# Altium footprint library TE_1586039-6.PcbLib: 1 footprints
Each footprint in its own frame and in the unit in brackets; x right, y up, seen from the top. Pads: shape width x height; smd on the part's side, far side on the other; paste and mask are expansions set on the pad; w line width, h text height; cw(c..) or ccw(c..) is an arc to the next point about the centre after c.
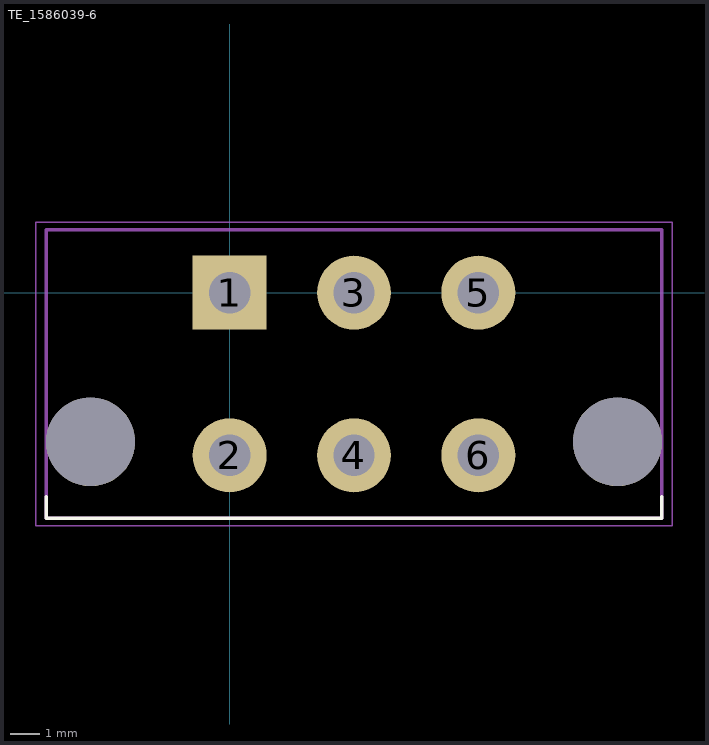
[diagram p0: the footprint, top view; thin cyan lines are the x and y axes]

## TE_1586039-6 [mm]
pads (8):
  rect 2.5x2.5 hole 1.4: 1(0,0)
  round 2.5 hole 1.4: 2(0,-5.5) 3(4.2,0) 4(4.2,-5.5) 5(8.4,0) 6(8.4,-5.5)
  round 3 hole 3 unplated: ""(-4.7,-5.04) ""(13.1,-5.04)
Top Overlay:
  lines w0.127: -6.2,-6.907 -6.2,-7.625 14.6,-7.625 14.6,-6.907
Mechanical 13:
  lines w0.127: -6.2,-7.625 -6.2,2.125 14.6,2.125 14.6,-7.625 ; -6.2,-7.625 14.6,-7.625 ; -6.2,-7.625 14.6,-7.625
Mechanical 15:
  lines w0.05: -6.55,-7.875 -6.55,2.375 14.95,2.375 14.95,-7.875 -6.55,-7.875
3D body "1586039-6.stp": height 12.81, standoff -3.49, extent -5.842,-8.904 14.258,2.046